# Altium footprint library PCB_Marking_Lib.PcbLib: 70 footprints (part 4 of 5)
Each footprint in its own frame and in the unit in brackets; x right, y up, seen from the top. Pads: shape width x height; smd on the part's side, far side on the other; paste and mask are expansions set on the pad; w line width, h text height; cw(c..) or ccw(c..) is an arc to the next point about the centre after c.
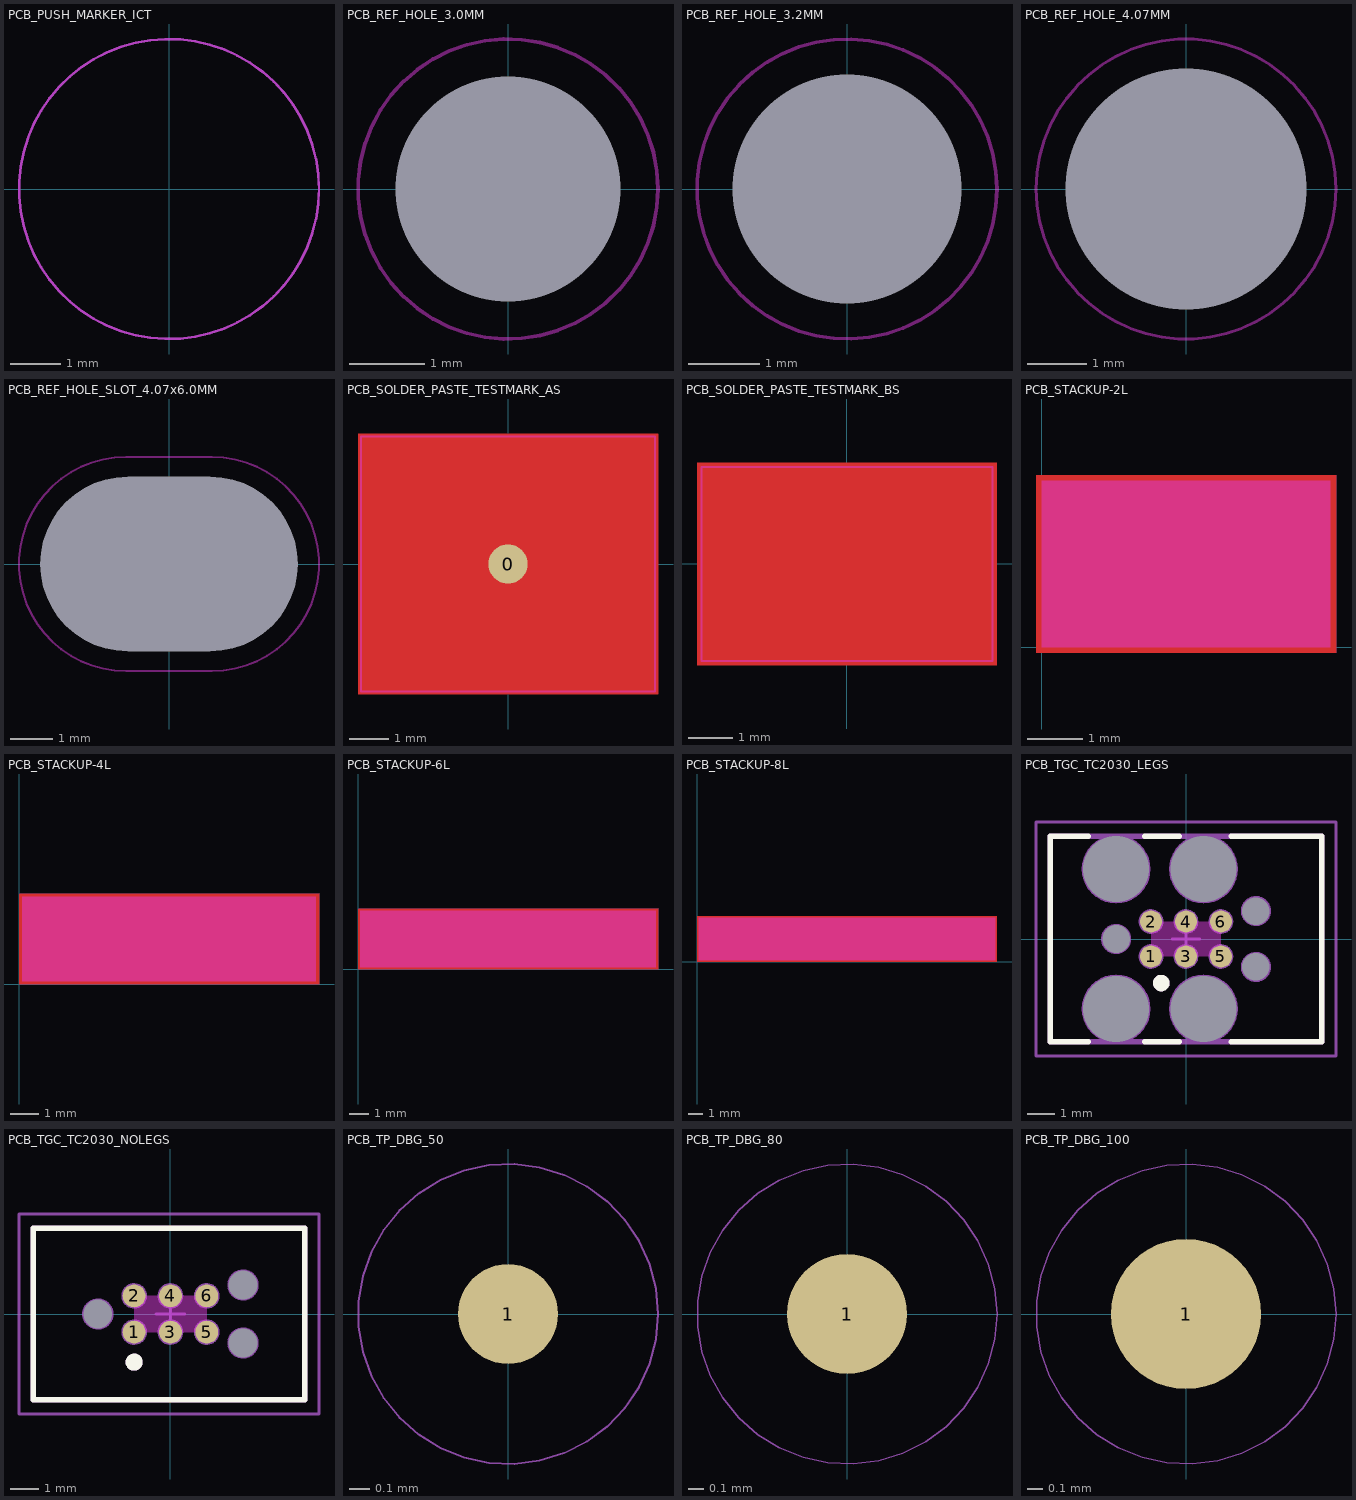
[diagram p3: the footprints below, top view; thin cyan lines are the x and y axes]

## PCB_PUSH_MARKER_ICT [mm]
Top Layer keep-out:
  circle w0.05: c0,0 r3
Mechanical 1:
  circle w0.05: c0,0 r3
  text "PM" at -0.6,0 h0.8
  text ".Designator" at -2.5,-0.9 h0.8

## PCB_REF_HOLE_3.0MM [mm]
pads (1):
  round 0 hole 3 unplated mask+0.2: 0(0,0)
Keep-Out Layer:
  circle w0.05: c0,0 r2

## PCB_REF_HOLE_3.2MM [mm]
pads (1):
  round 0 hole 3.2 unplated mask+0.2: 0(0,0)
Keep-Out Layer:
  circle w0.05: c0,0 r2.1

## PCB_REF_HOLE_4.07MM [mm]
pads (1):
  round 0 hole 4.07 unplated mask+0.2: 0(0,0)
Keep-Out Layer:
  circle w0.05: c0,0 r2.535

## PCB_REF_HOLE_SLOT_4.07x6.0MM [mm]
pads (1):
  round 0 hole 4.07 slot 6 at 0 deg unplated mask+0.2: 0(0,0)
Keep-Out Layer:
  lines w0.05: -1,-2.5 cw(c-1,0) -1,2.5 1,2.5 cw(c1,0) 1,-2.5 -1,-2.5

## PCB_SOLDER_PASTE_TESTMARK_AS [mm]
pads (1):
  round 1 smd mask+0.1: 0(0,0)
Top Layer:
  pour cut-out: -3.8,3.3 3.8,3.3 3.8,-3.3 -3.8,-3.3
  lines w0.3: -1.9,0 1.9,0
  lines w0.5: -2.76,-2.74 -2.76,-0.915 cw(c-2.15,0) -2.76,0.915 ; -2.75,-2.75 2.75,-2.75 ; -2.75,0.925 -2.75,2.75 2.75,2.75 2.75,0.925 ; 2.76,-2.74 2.76,-0.915 ccw(c2.15,0) 2.76,0.915
Top Layer keep-out:
  lines w0.05: -3.725,-3.225 3.725,-3.225 3.725,3.225 -3.725,3.225 -3.725,-3.225
Top Paste:
  rectangle: -2,-2 2,2

## PCB_SOLDER_PASTE_TESTMARK_BS [mm]
Top Layer:
  rectangle: -2.4,-1.3 -2,1.3
  rectangle: -1.75,-1.3 -1.35,1.3
  rectangle: -1.1,-1.3 -0.7,1.3
  region: 2.4,0.45 2.4,0.85 -0.2,0.85 -0.2,0.45
  region: 2.4,-0.2 2.4,0.2 -0.2,0.2 -0.2,-0.2
  region: 2.4,-0.85 2.4,-0.45 -0.2,-0.45 -0.2,-0.85
  pour cut-out: -3.4,2.3 3.4,2.3 3.4,-2.3 -3.4,-2.3
  lines w0.5: -2.95,-1.85 2.95,-1.85 2.95,1.85 -2.95,1.85 -2.95,-1.85
Top Layer keep-out:
  lines w0.05: -3.3,-2.2 3.3,-2.2 3.3,2.2 -3.3,2.2 -3.3,-2.2

## PCB_STACKUP-2L [mm]
Top Layer:
  pour cut-out: -0.1,3.1 5.3,3.1 5.3,-0.1 -0.1,-0.1
  lines w0.3: 0.15,0.15 0.15,2.85 2.45,2.85 2.45,0.15 0.15,0.15
  text "1" at 1.05,0.75 h1.5
Bottom Layer:
  pour cut-out: 5.3,3.1 -0.1,3.1 -0.1,-0.1 5.3,-0.1
  lines w0.3: 2.75,0.15 2.75,2.85 5.05,2.85 5.05,0.15 2.75,0.15
  text "2" at 3.4,0.75 h1.5
Top Solder:
  rectangle: 2.6,0 5.2,3
Bottom Solder:
  rectangle: 0,0 2.6,3
Keep-Out Layer:
  rectangle: 0,0 5.2,3

## PCB_STACKUP-4L [mm]
Top Layer:
  pour cut-out: 0,3.2 10.6,3.2 10.6,0 0,0
  lines w0.3: 0.25,0.25 2.55,0.25 2.55,2.95 0.25,2.95 0.25,0.25
  text "1" at 1.15,0.85 h1.5
Mid-Layer 1:
  lines w0.3: 2.85,0.25 2.85,2.95 5.15,2.95 5.15,0.25 2.85,0.25
  text "2" at 3.5,0.85 h1.5
Mid-Layer 2:
  lines w0.3: 5.45,0.25 5.45,2.95 7.75,2.95 7.75,0.25 5.45,0.25
  text "3" at 6.1,0.85 h1.5
Bottom Layer:
  pour cut-out: 10.6,3.2 0,3.2 0,0 10.6,0
  lines w0.3: 8.05,0.25 8.05,2.95 10.35,2.95 10.35,0.25 8.05,0.25
  text "4" at 8.7,0.85 h1.5
Top Solder:
  rectangle: 2.7,0.1 10.5,3.1
Bottom Solder:
  rectangle: 0.1,0.1 7.9,3.1
Keep-Out Layer:
  rectangle: 0.1,0.1 10.5,3.1

## PCB_STACKUP-6L [mm]
Top Layer:
  pour cut-out: 0,3.2 15.8,3.2 15.8,0 0,0
  lines w0.3: 0.25,0.25 0.25,2.95 2.55,2.95 2.55,0.25 0.25,0.25
  text "1" at 1.15,0.85 h1.5
Mid-Layer 1:
  lines w0.3: 2.85,0.25 5.15,0.25 5.15,2.95 2.85,2.95 2.85,0.25
  text "2" at 3.5,0.85 h1.5
Mid-Layer 2:
  lines w0.3: 5.45,0.25 7.75,0.25 7.75,2.95 5.45,2.95 5.45,0.25
  text "3" at 6.1,0.85 h1.5
Mid-Layer 3:
  lines w0.3: 8.05,0.25 8.05,2.95 10.35,2.95 10.35,0.25 8.05,0.25
  text "4" at 8.7,0.85 h1.5
Mid-Layer 4:
  lines w0.3: 10.65,0.25 12.95,0.25 12.95,2.95 10.65,2.95 10.65,0.25
  text "5" at 11.3,0.85 h1.5
Bottom Layer:
  pour cut-out: 15.8,3.2 0,3.2 0,0 15.8,0
  lines w0.3: 13.25,0.25 15.55,0.25 15.55,2.95 13.25,2.95 13.25,0.25
  text "6" at 13.9,0.85 h1.5
Top Solder:
  rectangle: 2.7,0.1 15.7,3.1
Bottom Solder:
  rectangle: 0.1,0.1 13.1,3.1
Keep-Out Layer:
  rectangle: 0.1,0.1 15.7,3.1

## PCB_STACKUP-8L [mm]
Top Layer:
  pour cut-out: 0,3.2 21,3.2 21,0 0,0
  lines w0.3: 0.25,0.25 2.55,0.25 2.55,2.95 0.25,2.95 0.25,0.25
  text "1" at 1.15,0.85 h1.5
Mid-Layer 1:
  lines w0.3: 2.85,0.25 2.85,2.95 5.15,2.95 5.15,0.25 2.85,0.25
  text "2" at 3.5,0.85 h1.5
Mid-Layer 2:
  lines w0.3: 5.45,0.25 5.45,2.95 7.75,2.95 7.75,0.25 5.45,0.25
  text "3" at 6.1,0.85 h1.5
Mid-Layer 3:
  lines w0.3: 8.05,0.25 10.35,0.25 10.35,2.95 8.05,2.95 8.05,0.25
  text "4" at 8.7,0.85 h1.5
Mid-Layer 4:
  lines w0.3: 10.65,0.25 10.65,2.95 12.95,2.95 12.95,0.25 10.65,0.25
  text "5" at 11.3,0.85 h1.5
Mid-Layer 5:
  lines w0.3: 13.25,0.25 15.55,0.25 15.55,2.95 13.25,2.95 13.25,0.25
  text "6" at 13.9,0.85 h1.5
Mid-Layer 6:
  lines w0.3: 15.85,0.25 18.15,0.25 18.15,2.95 15.85,2.95 15.85,0.25
  text "7" at 16.5,0.85 h1.5
Bottom Layer:
  pour cut-out: 21,3.2 0,3.2 0,0 21,0
  lines w0.3: 18.45,0.25 20.75,0.25 20.75,2.95 18.45,2.95 18.45,0.25
  text "8" at 19.1,0.85 h1.5
Top Solder:
  rectangle: 2.7,0.1 20.9,3.1
Bottom Solder:
  rectangle: 0.1,0.1 18.3,3.1
Keep-Out Layer:
  rectangle: 0.1,0.1 20.9,3.1

## PCB_TGC_TC2030_LEGS [mm]
pads (13):
  round 0.8 smd: 1(-1.27,-0.635) 2(-1.27,0.635) 3(0,-0.635) 4(0,0.635) 5(1.27,-0.635) 6(1.27,0.635)
  round 0 hole 2.4 unplated mask+0.1: MH(-2.54,-2.54) MH(-2.54,2.54) MH(0.635,-2.54) MH(0.635,2.54)
  round 0 hole 1 unplated mask+0.1: MH(-2.54,0) MH(2.54,-1.016) MH(2.54,1.016)
Top Layer keep-out:
  region: 1.27,-0.635 -1.27,-0.635 -1.27,0.635 1.27,0.635
Top Overlay:
  circle w0.3: c-0.9,-1.6 r0.15
  lines w0.2: -3.55,-3.725 -4.925,-3.725 -4.925,3.725 -3.55,3.725 ; -1.5,-3.725 -0.25,-3.725 ; -1.5,3.725 -0.25,3.725 ; 1.65,-3.725 4.925,-3.725 4.925,3.725 1.65,3.725
Mechanical 19:
  circle w0.1: c-1.27,0.635 r0.4
  circle w0.1: c0,0.635 r0.4
  circle w0.1: c1.27,0.635 r0.4
  circle w0.1: c1.27,-0.635 r0.4
  circle w0.1: c0,-0.635 r0.4
  circle w0.1: c-1.27,-0.635 r0.4
  circle w0.1: c2.54,1.016 r0.5
  circle w0.1: c2.54,-1.016 r0.5
  circle w0.1: c-2.54,0 r0.5
  circle w0.1: c-2.54,2.54 r1.2
  circle w0.1: c0.635,2.54 r1.2
  circle w0.1: c-2.54,-2.54 r1.2
  circle w0.1: c0.635,-2.54 r1.2
  circle w0.3: c-0.9,-1.6 r0.15
  lines w0.2: -4.925,-3.725 4.925,-3.725 4.925,3.725 -4.925,3.725 -4.925,-3.725
  text ".Designator" at -3.1,-0.2 h0.64
Mechanical 23:
  lines w0.1: -0.5,0 0.5,0 ; 0,-0.5 0,0.5 ; -5.45,-4.25 -5.45,4.25 5.45,4.25 5.45,-4.25 -5.45,-4.25
3D body "Tag_Connect_TC2030.stp": height 39.8, standoff -1.7, extent -4.8,-3 4.7,3

## PCB_TGC_TC2030_NOLEGS [mm]
pads (9):
  round 0.8 smd: 1(-1.27,-0.635) 2(-1.27,0.635) 3(0,-0.635) 4(0,0.635) 5(1.27,-0.635) 6(1.27,0.635)
  round 0 hole 1 unplated mask+0.1: MH(-2.54,0) MH(2.54,-1.016) MH(2.54,1.016)
Top Layer keep-out:
  region: 1.27,-0.635 -1.27,-0.635 -1.27,0.635 1.27,0.635
Top Overlay:
  circle w0.3: c-1.27,-1.685 r0.15
  lines w0.2: -4.8,-3 4.7,-3 4.7,3 -4.8,3 -4.8,-3
Mechanical 19:
  circle w0.1: c-1.27,0.635 r0.4
  circle w0.1: c0,0.635 r0.4
  circle w0.1: c1.27,0.635 r0.4
  circle w0.1: c1.27,-0.635 r0.4
  circle w0.1: c0,-0.635 r0.4
  circle w0.1: c-1.27,-0.635 r0.4
  circle w0.1: c2.54,1.016 r0.5
  circle w0.1: c2.54,-1.016 r0.5
  circle w0.1: c-2.54,0 r0.5
  circle w0.3: c-1.27,-1.685 r0.15
  lines w0.2: -4.8,-3 4.7,-3 4.7,3 -4.8,3 -4.8,-3
  text ".Designator" at -3.1,-0.2 h0.64
Mechanical 23:
  lines w0.1: -0.5,0 0.5,0 ; 0,-0.5 0,0.5 ; -5.3,-3.5 -5.3,3.5 5.2,3.5 5.2,-3.5 -5.3,-3.5
3D body "Tag_Connect_TC2030.stp": height 39.8, standoff -1.7, extent -4.8,-3 4.7,3

## PCB_TP_DBG_50 [mm] "Testpoint"
pads (1):
  round 0.5 smd paste-10: 1(0,0)
Mechanical 27:
  circle w0.01: c0,0 r0.75
  text ".Designator" at -0.6,-0.2 h0.5

## PCB_TP_DBG_80 [mm] "testpoint"
pads (1):
  round 0.8 smd paste-10: 1(0,0)
Mechanical 27:
  circle w0.01: c0,0 r1
  text ".Designator" at -0.6,-0.2 h0.5

## PCB_TP_DBG_100 [mm] "testpoint"
pads (1):
  round 1 smd paste-10: 1(0,0)
Mechanical 27:
  circle w0.01: c0,0 r1
  text ".Designator" at -0.6,-0.2 h0.5